# Altium schematic symbol library Alcetronics_EM.SchLib: 36 symbols
Pins are listed as number, name and electrical type; pins without a type are passive.

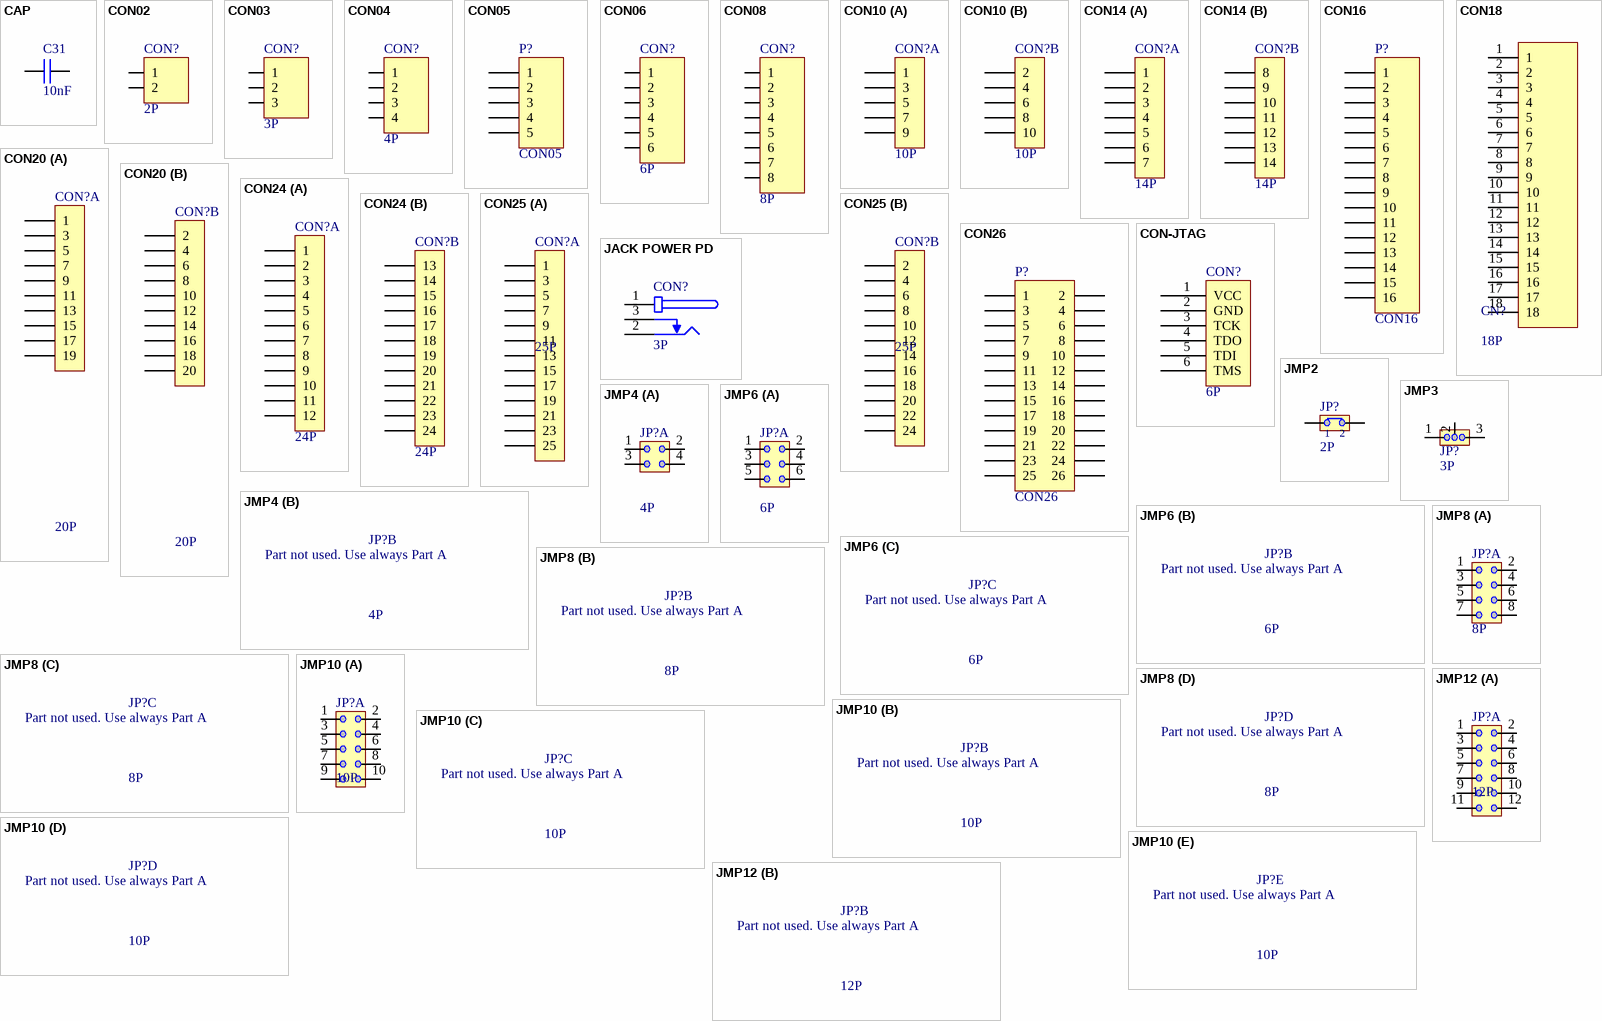
[diagram p0: symbols CAP to JMP12]

## CAP
designator C31, comment 10nF
Capacitor; Owner: Nuno Brum; Sub-Type: Ceramic; Assembly: INS; Maximum Voltage: *; Creation Date: 2005-04-28; Status: Valid; Validation date: 2006-05-15; Type: Capacitor
simulation model CAP (Capacitor)
signal-integrity model Cap
footprint 1210 (2-pin 1210 outline)
footprint 0805
footprint 0402
footprint 1206
footprint 0603
pins: 1, 2

## CON02
designator CON?, comment 2P
Connector 2 pins; Owner: Rui Rebelo; Assembly: INS; Sub-Type: Connector; Creation Date: 2005-05-27; Status: Valid; Validation Date: 2006-05-15; Type: Electrical & Mechanical
footprint INTERLOCK2-5MM
footprint SIP-2
footprint INTERLOCK2-5MM-FIXED
footprint JST-2MM (JST 2mm header side entry)
pins: 1, 2

## CON03
designator CON?, comment 3P
Connector 3 pins; Owner: Rui Rebelo; Assembly: INS; Sub-Type: Connector; Creation Date: 2005-05-27; Status: Valid; Validation Date: 2006-05-15; Type: Electrical & Mechanical
footprint INTERLOCK3-5MM
footprint SIP-3
footprint INTERLOCK3-5MM-FIXED
pins: 1, 2, 3

## CON04
designator CON?, comment 4P
Connector 4 pins; Owner: Rui Rebelo; Assembly: INS; Sub-Type: Connector; Creation Date: 2005-10-17; Status: Valid; Validation Date: 2006-05-15; Type: Electrical & Mechanical
footprint SIP-4
pins: 1, 2, 3, 4

## CON05
designator P?
Connector 5 pins; LatestRevisionDate: 17-Jul-2002; LatestRevisionNote: Re-released for DXP Platform.; Publisher: Altium Limited
footprint SIP-5
signal-integrity model Connector
pins: 1, 2, 3, 4, 5

## CON06
designator CON?, comment 6P
Connector 6 pins; Owner: Rui Rebelo; Assembly: INS; Sub-Type: Connector; Creation Date: 2005-10-17; Status: Valid; Validation Date: 2006-05-15; Type: Electrical & Mechanical
footprint SIP-6
footprint CLT-103-BE-A (Socket  2mm x 3 row with Bottom entry)
footprint MTMM-103-D (Footprint not found)
footprint MPT-6-100MIL
pins: 1, 2, 3, 4, 5, 6

## CON08
designator CON?, comment 8P
Connector 8 pins; Owner: Rui Rebelo; Assembly: INS; Sub-Type: Connector; Creation Date: 2005-10-17; Status: Valid; Validation Date: 2006-05-15; Type: Electrical & Mechanical
footprint SIP-8
pins: 1, 2, 3, 4, 5, 6, 7, 8

## CON10
designator CON?, comment 10P
Connector 10 Pins; Owner: António Silva; Assembly: INS; Sub-Type: Connector; Creation Date: 2005-11-21; Status: Valid; Validation Date: 2006-05-15; Type: Electrical & Mechanical
footprint IDC-10
footprint IDC-10-F
footprint IDC-10-90
part A pins: 1, 3, 5, 7, 9
part B pins: 2, 4, 6, 8, 10
1 alternate drawing of the same symbol

## CON14
designator CON?, comment 14P
Connector 14 Pins; Owner: Rui Rebelo; Assembly: INS; Sub-Type: Connector; Creation Date: 2008-01-11; Status: New; Type: Electrical & Mechanical
footprint PTF-107-D
part A pins: 1, 2, 3, 4, 5, 6, 7
part B pins: 8, 9, 10, 11, 12, 13, 14
2 alternate drawings of the same symbol

## CON16
designator P?
Header, 16-Pin; LatestRevisionDate: 17-Jul-2002; LatestRevisionNote: Re-released for DXP Platform.; Publisher: Altium Limited
footprint HDR1X16 (Connector; Header; 16 Position)
signal-integrity model Connector
footprint HDR1X16H (Connector; Header; 16 Position; Right Angle)
footprint HDR2X8 (Connector; Header; 8x2 Position)
footprint HDR2X8H (Connector; Header; 8x2 Position; Right Angle)
footprint HDR2X8_CEN (Connector; Header; 8x2 Position)
pins: 1, 2, 3, 4, 5, 6, 7, 8, 9, 10, 11, 12, 13, 14, 15, 16

## CON18
designator CN?, comment 18P
Connector 18 Pins
footprint TSM-109-DH-A@IDC-20
pins: 1, 2, 3, 4, 5, 6, 7, 8, 9, 10, 11, 12, 13, 14, 15, 16, 17, 18

## CON20
designator CON?, comment 20P
Connector 20 Pins; Owner: Nuno Brum; Assembly: INS; Sub-Type: Connector; Creation Date: 2005-06-01; Status: Valid; Validation Date: 2006-05-15; Type: Electrical & Mechanical
footprint IDC-20
footprint IDC-20-F90
footprint IDC-20-F
footprint IDC-20-90
footprint IDC-20-EDGE (IDC-20 STRAIGHT PCB EDGE)
part A pins: 1, 3, 5, 7, 9, 11, 13, 15, 17, 19
part B pins: 2, 4, 6, 8, 10, 12, 14, 16, 18, 20
2 alternate drawings of the same symbol

## CON24
designator CON?, comment 24P
Connector 24 Pins; Owner: Rui Rebelo; Assembly: INS; Sub-Type: Connector; Creation Date: 2008-01-11; Status: New; Type: Electrical & Mechanical
footprint PTF-112-D
part A pins: 1, 2, 3, 4, 5, 6, 7, 8, 9, 10, 11, 12
part B pins: 13, 14, 15, 16, 17, 18, 19, 20, 21, 22, 23, 24
2 alternate drawings of the same symbol

## CON25
designator CON?, comment 25P
Connector 25 Pins; Owner: Ricardo Rodrigues; Assembly: INS; Sub-Type: Connector; Creation Date: 2013-01-13; Status: Valid; Validation Date: 2012-01-13; Type: Electrical & Mechanical
footprint DF9-25 (Hirose DF9 25P CON)
footprint DF9-25-STACK (Hirose DF9 25P CON - STACKED)
footprint DF9-25-MIRROR (Hirose DF9 25P CON)
part A pins: 1, 3, 5, 7, 9, 11, 13, 15, 17, 19, 21, 23, 25
part B pins: 2, 4, 6, 8, 10, 12, 14, 16, 18, 20, 22, 24
1 alternate drawing of the same symbol

## CON26
designator P?
26-Pin, Dual row; LatestRevisionDate: 17-Jul-2002; LatestRevisionNote: Re-released for DXP Platform.; Publisher: Altium Limited
footprint HDR2X13 (Connector; Header; 13x2 Position)
signal-integrity model Connector
footprint HDR2X13H (Connector; Header; 13x2 Position; Right Angle)
pins: 1, 2, 3, 4, 5, 6, 7, 8, 9, 10, 11, 12, 13, 14, 15, 16, 17, 18, 19, 20, 21, 22, 23, 24, 25, 26

## CON-JTAG
designator CON?, comment 6P
Generic JTAG Connector; Owner: António Oliveira; Assembly: INS; Sub-Type: Connector; Creation Date: 2005-11-07; Status: Valid; Validation Date: 2006-05-15; Type: Electrical & Mechanical
footprint SIP-6-JTAG (JTAG Connector)
footprint SIP-6
pins: 1 VCC, 2 GND, 3 TCK, 4 TDO, 5 TDI, 6 TMS

## JACK POWER PD
designator CON?, comment 3P
Jack Power with insertion detect; Sub-Type: Connector; Owner: Gonçalo Costa; Assembly: INS; Creation Date: 2005-12-05; Status: New; Type: Electrical & Mechanical
footprint JACKPOW/PD-2.5MM (Power Jack SMD 2.5MM with plug detect)
footprint JACKPOW/PD-2.5MM-TH (Jack Power 2.5mm with insertion detect - Through Hole)
pins: 1, 2, 3

## JMP2
designator JP?, comment 2P
2-pin Jumper; Owner: Nuno Brum; Sub-Type: Connector; STATE1: 1; Assembly: INS; Validation Date: 2006-05-15; Creation Date: 2002-07-17; Status: Valid; Type: Electrical & Mechanical
footprint SIP-2
simulation model JUMPER2 (Two Pin Jumper)
footprint SIP-2-90
footprint SIP-2-F
pins: 1, 2
1 alternate drawing of the same symbol

## JMP3
designator JP?, comment 3P
3-Jumper; Owner: Nuno Brum; Sub-Type: Connector; STATE1: 0; Assembly: INS; Validation Date: 2006-05-15; Creation Date: 2002-07-17; Status: Valid; Type: Electrical & Mechanical
footprint SIP-3
simulation model JUMPER3 (Model Description)
pins: 1, 2, 3
1 alternate drawing of the same symbol

## JMP4
designator JP?, comment 4P
4-Pin Jumper; Sub-Type: Connector; Owner: Rui Rebelo; Assembly: INS; Creation Date: 2005-07-17; Status: Valid; Validation Date: 2006-05-15; Type: Electrical & Mechanical
footprint DIL-4 (Dual inline 2x2 pins 2.54mm pitch)
footprint DIL-4-SMD-1.27MM (Dual inline 2x2 pins SMD 1.27mm pitch)
footprint DIL-4-1.27MM (Dual inline 2x2 pins 1.27mm pitch)
footprint DIL-4-SMD
part A pins: 1, 2, 3, 4
3 alternate drawings of the same symbol
part B text: Part not used. Use always Part A

## JMP6
designator JP?, comment 6P
6-Pin Jumper; Sub-Type: Connector; Owner: Rui Rebelo; Assembly: INS; Creation Date: 2005-07-17; Status: Valid; Validation Date: 2006-05-15; Type: Electrical & Mechanical
footprint DIL-6 (Dual inline 2x3 pins 2.54mm pitch)
footprint DIL-6-SMD-1.27MM (Dual inline 2x3 pins SMD 1.27mm pitch)
footprint DIL-6-1.27MM (Dual inline 2x3 pins 1.27mm pitch)
footprint DIL-6-SMD
part A pins: 1, 2, 3, 4, 5, 6
2 alternate drawings of the same symbol
part B text: Part not used. Use always Part A
part C text: Part not used. Use always Part A

## JMP8
designator JP?, comment 8P
8-Pin Jumper; Sub-Type: Connector; Owner: Rui Rebelo; Assembly: INS; Creation Date: 2005-07-17; Status: Valid; Validation Date: 2006-05-15; Type: Electrical & Mechanical
footprint DIL-8
footprint DIL-8-SMD-1.27MM (DIL8 SMD 1.27mm)
footprint DIL-8-1.27MM
footprint DIL-8-SMD
part A pins: 1, 2, 3, 4, 5, 6, 7, 8
2 alternate drawings of the same symbol
part B text: Part not used. Use always Part A
part C text: Part not used. Use always Part A
part D text: Part not used. Use always Part A

## JMP10
designator JP?, comment 10P
10-Pin Jumper; Sub-Type: Connector; Owner: Rui Rebelo; Assembly: INS; Creation Date: 2005-07-17; Status: Valid; Validation Date: 2006-05-15; Type: Electrical & Mechanical
footprint DIL-10 (Dual inline 2x5 pins 2.54mm pitch)
footprint DIL-10-SMD-1.27MM (DIL10 SMD 1.27mm)
footprint DIL-10-1.27MM (Dual inline 2x5 pins SMD 1.27mm pitch)
footprint DIL-10-SMD
part A pins: 1, 2, 3, 4, 5, 6, 7, 8, 9, 10
2 alternate drawings of the same symbol
part B text: Part not used. Use always Part A
part C text: Part not used. Use always Part A
part D text: Part not used. Use always Part A
part E text: Part not used. Use always Part A

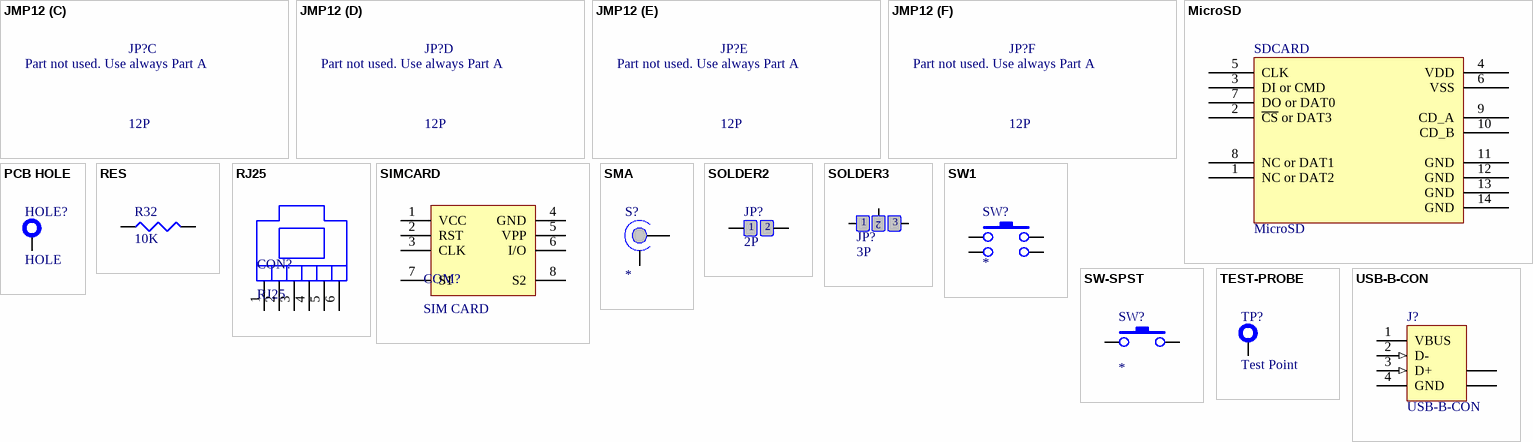
[diagram p1: symbols JMP12 to USB-B-CON]

## JMP12
designator JP?, comment 12P
12-Pin Jumper; Sub-Type: Connector; Owner: Rui Rebelo; Assembly: INS; Creation Date: 2005-07-17; Status: Valid; Validation Date: 2006-05-15; Type: Electrical & Mechanical
footprint DIL-12 (Dual inline 2x6 pins 2.54mm pitch)
footprint DIL-12-SMD-1.27MM (Dual inline 2x6 pins SMD 1.27mm pitch)
footprint DIL-12-1.27MM (Dual inline 2x6 pins 1.27mm pitch)
footprint DIL-12-SMD (Dual inline 2x6 pins SMD 2.54mm pitch)
part A pins: 1, 2, 3, 4, 5, 6, 7, 8, 9, 10, 11, 12
2 alternate drawings of the same symbol
part B text: Part not used. Use always Part A
part C text: Part not used. Use always Part A
part D text: Part not used. Use always Part A
part E text: Part not used. Use always Part A
part F text: Part not used. Use always Part A

## MicroSD
designator SDCARD
Micro SD connector - DM3D; URL: http://www.hirose.co.jp/cataloge_hp/e60900232.pdf
footprint microSD
pins: 1 NC or DAT2, 2 ~{CS} or DAT3, 3 DI or CMD, 4 VDD, 5 CLK, 6 VSS, 7 DO or DAT0, 8 NC or DAT1, 9 CD_A, 10 CD_B, 11 GND, 12 GND, 13 GND, 14 GND

## PCB HOLE
designator HOLE?, comment HOLE  (no BOM)
PCB Fixation Hole M3; Owner: Nuno Brum; Sub-Type: Mechanical; Type: PCB; Creation Date: 2005-06-01; Status: Valid; Validation Date: 2006-05-15; Assembly: PCB
footprint NPTH-3MM
pins: 1 TP

## RES
designator R32, comment 10K
Resistor; Owner: Nuno Brum; Sub-Type: Generic; Assembly: INS; Validation date: 2006-05-15; Creation Date: 2002-07-17; Status: Valid; Power: *; Type: Resistor
simulation model RESISTOR (Resistor)
signal-integrity model Res
footprint 0805
footprint 0402
footprint 2512
footprint 1206
footprint 2010
footprint AXIAL-0.6 (Axial L=15.24mm(0.6in) H=0.85mm)
footprint AXIAL-0.4 (Resistor; 2 Leads)
footprint AXIAL-0.3 (Resistor; 2 Leads)
footprint 0603
footprint AXIAL-0.5 (500mil between pads, 340mil body length and 100mil body width)
footprint AXIAL-0.8 (800mil between pads, 600mil body length and 220mil body width)
footprint AXIAL-1.1 (1100mil between pads, 1070mil body length and 320mil body width)
footprint 1218
pins: 1, 2
2 alternate drawings of the same symbol

## RJ25
designator CON?
RJ25 Connector; Type: Connector; Creation Date: 2012-03-26
footprint RJ25
pins: 1, 2, 3, 4, 5, 6

## SIMCARD
designator COM?, comment SIM CARD
SIMCARD holder; Manufacturer REF: SF7W008S1AE900; Manufacturer: JAE Electronics; Mouser REF: 656-SF7W008S1AE900
footprint SIMCARD-8 (SIM CARD Holder)
pins: 1 VCC, 2 RST, 3 CLK, 4 GND, 5 VPP, 6 I/O, 7 S1, 8 S2

## SMA
designator S?
SMA to PCB - Coaxial connector; Owner: Nuno Brum; Assembly: INS; Validation Date: 2006-05-15; Sub-Type: Connector; Creation Date: 2002-07-17; Status: Valid; Type: Electrical & Mechanical
footprint SMA
footprint SMA-90
footprint SMA-90-EDJE
footprint SMA-JOHNSON-SCREW
footprint SMA-90-EDJE-JACK
pins: 1 SIG, 2 GND

## SOLDER2
designator JP?, comment 2P  (no BOM)
Solder Jumper 2 Positions; Owner: Rui Rebelo; STATE1: 1; Assembly: PCB; Validation Date: 2006-05-15; Type: PCB; Creation Date: 2006-02-27; Status: Valid; Sub-Type: Jumper
footprint SOLDER-2-1206 (2 Pin Solder Jumper 1206 size)
simulation model JUMPER2 (Two Pin Jumper)
footprint SOLDER-2-0805 (2 Pin Solder Jumper 0805 size)
footprint SOLDER-2-0603 (2 Pin Solder Jumper 0603 size)
footprint SOLDER-2-0402 (2 Pin Solder Jumper 0402 size)
pins: 1, 2
1 alternate drawing of the same symbol

## SOLDER3
designator JP?, comment 3P  (no BOM)
Solder Jumper 3 positions; Owner: Rui Rebelo; STATE1: 0; Assembly: PCB; Validation Date: 2006-05-15; Type: PCB; Creation Date: 2006-02-27; Status: Valid; Sub-Type: Jumper
footprint SOLDER-3-1206 (3 Pins Solder Jumper 1206 size)
simulation model JUMPER3 (Model Description)
footprint SOLDER-3-0805 (3 Pins Solder Jumper 0805 size)
footprint SOLDER-3-0603 (3 Pins Solder Jumper 0603 size)
footprint SOLDER-3-0402 (3 Pins Solder Jumper 0402 size)
pins: 1, 2, 3
1 alternate drawing of the same symbol

## SW1
designator SW?
Switch Push Button; Owner: Nuno Brum; Assembly: INS; Validation Date: 2006-05-15; Sub-Type: Switch; Creation Date: 2002-07-17; Status: Valid; Type: Electrical & Mechanical
footprint MICROSWITCH
pins: 1, 2, 3, 4

## SW-SPST
designator SW?
Switch Push Button; Owner: Ricardo Rodrigues; Assembly: INS; Validation Date: 2013-01-13; Sub-Type: Switch; Creation Date: 2013-01-13; Status: Valid; Type: Electrical & Mechanical
footprint MICROSWITCH-RA (Right Angle Switch)
pins: 1, 2

## TEST-PROBE
designator TP?, comment Test Point  (no BOM)
Test/Probe Point; Owner: Nuno Brum; Sub-Type: Mechanical; Assembly: PCB; Validation Date: 2006-05-15; Type: PCB; Creation Date: 2005-06-01; Status: Valid
footprint TERMINAL-SMALL
footprint TERMINAL-SCOPE
footprint TERMINAL-LARGE
footprint TERMINAL-SURFACE (Surface Testpoint)
footprint TERMINAL
footprint TEST-PROBE2
pins: 1 TP

## USB-B-CON
designator J?
USB 1.1, Right Angle, Thru-Hole, B Type, Receptacle, 4 Position, Black; ContactMaterial: Copper Alloy; ContactPlating: Gold (5) over Nickel; TerminationLength: 2.84mm [0.112in.]; PCB_Layout: Complies with manufacturer's recommendation.; DrillSize: Corresponds to nominal value.; PanelGround: Without; Published: 15-Jul-2004; DatasheetDocument: 12-Jan-2004; PackageDocument: 12-Jan-2004; PackageReference: 440119; Publisher: Altium Limited; HousingMaterial: Thermoplastic; ComponentLink1Description: Manufacturer Link; ComponentLink1URL: http://www.tycoelectronics.com/; ComponentLink2Description: Packaging Specification; ComponentLink2URL: http://ecommas.tycoelectronics.com/commerce/DocumentDelivery/DDEController?Action=showdoc&DocId=Customer+Drawing%7F440119%7FC%7Ftif%7FEnglish%7FC_440119_C.tif
footprint USB-B (Connector; USB1.1, Type B, Thru-Hole; 4 Position; Right Angle)
signal-integrity model USB1.1
pins: 1 VBUS (power) "Power", 2 D- (in) "-DATA", 3 D+ (in) "+DATA", 4 GND (power) "Ground", 5 SHLD "Shield", 6 SHLD "Shield"